# EAGLE library part SA575 (library IC)
ON Semiconductor SA575 Low Voltage Compandor
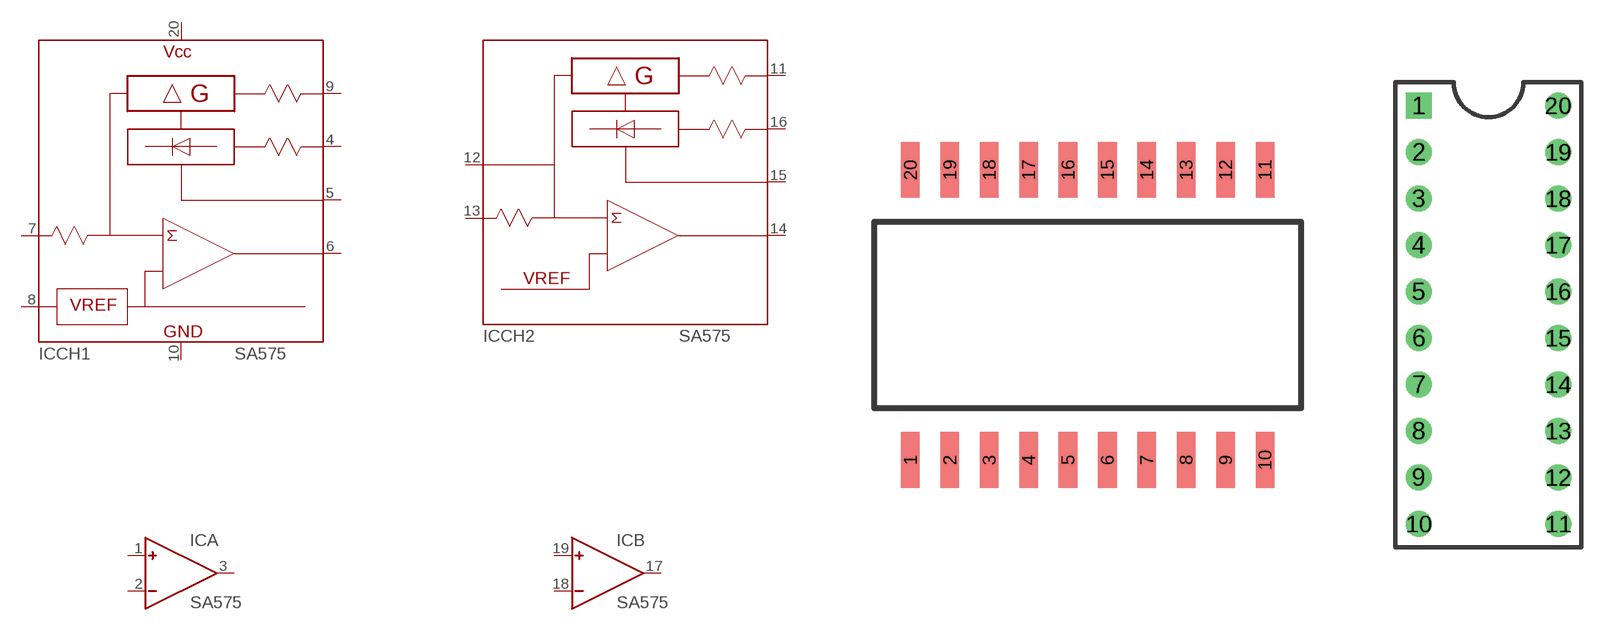
[diagram p72: symbol with the pads of SOIC20; footprints SOIC20, DIP-20C]

Designator prefix IC; gates CH1=SA575-CH1 CH2=SA575-CH2 B=OPAMP A=OPAMP

## SA575D  [SOIC20]
1  A:IN+  in
2  A:IN-  in
3  A:OUT  out
4  CH1:R-IN
5  CH1:CRECT-IN
6  CH1:SIGOUT
7  CH1:SIGIN
8  CH1:REF
9  CH1:G-IN
10  CH1:GND
11  CH2:G-IN
12  CH2:IN1
13  CH2:IN2
14  CH2:SIGOUT
15  CH2:CRECT-IN
16  CH2:R-IN
17  B:OUT  out
18  B:IN-  in
19  B:IN+  in
20  CH1:VCC

## SA575N  [DIP-20C]
Pads as for SOIC20

## SA575DTB  [TSSOP20]
Pads as for SOIC20

## Footprint SOIC20 (pad centres in mm)
SOIC-20, 1.27mm pitch, 10.55mm width, 12.95mm length
smd 0.6 x 1.8: 1 -5.715,-4.679; 2 -4.445,-4.679; 3 -3.175,-4.679; 4 -1.905,-4.679; 5 -0.635,-4.679; 6 0.635,-4.679; 7 1.905,-4.679; 8 3.175,-4.679; 9 4.445,-4.679; 10 5.715,-4.679; 11 5.715,4.679; 12 4.445,4.679; 13 3.175,4.679; 14 1.905,4.679; 15 0.635,4.679; 16 -0.635,4.679; 17 -1.905,4.679; 18 -3.175,4.679; 19 -4.445,4.679; 20 -5.715,4.679

## Footprint DIP-20C (pad centres in mm)
drill 0.889 square: 1 -3.81,11.43
drill 0.889 round: 2 -3.81,8.89; 3 -3.81,6.35; 4 -3.81,3.81; 5 -3.81,1.27; 6 -3.81,-1.27; 7 -3.81,-3.81; 8 -3.81,-6.35; 9 -3.81,-8.89; 10 -3.81,-11.43; 11 3.81,-11.43; 12 3.81,-8.89; 13 3.81,-6.35; 14 3.81,-3.81; 15 3.81,-1.27; 16 3.81,1.27; 17 3.81,3.81; 18 3.81,6.35; 19 3.81,8.89; 20 3.81,11.43

## Footprint TSSOP20 (pad centres in mm)
smd 0.3 x 1: 1 -2.925,-2.925; 2 -2.275,-2.925; 3 -1.625,-2.925; 4 -0.975,-2.925; 5 -0.325,-2.925; 6 0.325,-2.925; 7 0.975,-2.925; 8 1.625,-2.925; 9 2.275,-2.925; 10 2.925,-2.925; 11 2.925,2.925; 12 2.275,2.925; 13 1.625,2.925; 14 0.975,2.925; 15 0.325,2.925; 16 -0.325,2.925; 17 -0.975,2.925; 18 -1.625,2.925; 19 -2.275,2.925; 20 -2.925,2.925